# EAGLE library part DAC-PMC510XA (library FlashPCB_ICs)
PCM510xA - IC DAC 16/24/32BIT 384K 20TSSOP Technical Specifications: DAC, Audio 16 b, 24 b, 32 b 384k PCM 20-TSSOP Digital-to-Analog Converter, Audio Number of Channels: 2 Interface: PCM Input Resolution: 16-bit, 24-bit, 32-bit Supply Voltage: 1.8V~3.3V (Digital) / 5.5V (Analog) Component Search: PCM5100 / PCM5101 / PCM5102 <https://www.flashpcb.com/components> Datasheet: PCM510xA 2.1 VRMS, 112/106/100 dB Audio Stereo DAC with PLL and 32-bit, 384 kHz PCM Interface datasheet (Rev. C) <https://www.ti.com/lit/ds/symlink/pcm5101a-q1.pdf?HQS=dis-dk-null-digikeymode-dsf-pf-null-wwe&ts=1683750036524&ref_url=https%253A%252F%252Fwww.ti.com%252Fgeneral%252Fdocs%252Fsuppproductinfo.tsp%253FdistId%253D10%2526gotoUrl%253Dhttps%253A%252F%252Fwww.ti.com%252Flit%252Fgpn%252Fpcm5101a-q1>
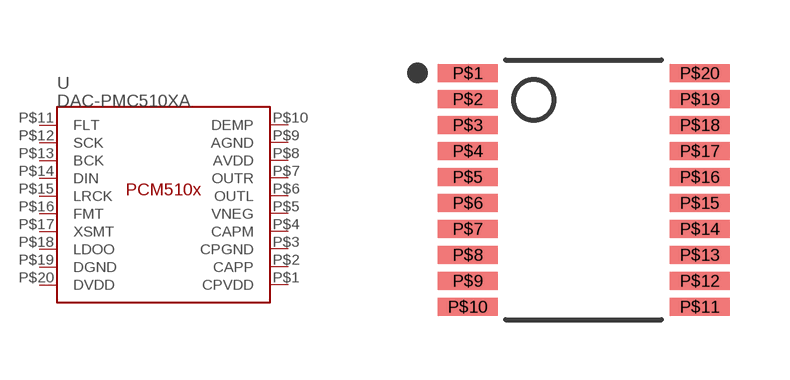
[diagram p41: symbol with the pads of 20-TSSOP(6.5X4.4); footprint 20-TSSOP(6.5X4.4)]

Designator prefix U

## DAC-PMC510XAPW  [20-TSSOP(6.5X4.4)]
P$1  CPVDD
P$2  CAPP
P$3  CPGND
P$4  CAPM
P$5  VNEG
P$6  OUTL
P$7  OUTR
P$8  AVDD
P$9  AGND
P$10  DEMP
P$11  FLT
P$12  SCK
P$13  BCK
P$14  DIN
P$15  LRCK
P$16  FMT
P$17  XSMT
P$18  LDOO
P$19  DGND
P$20  DVDD

## Footprint 20-TSSOP(6.5X4.4) (pad centres in mm)
smd 1.5 x 0.45: P$1 -2.9,2.925; P$2 -2.9,2.275; P$3 -2.9,1.625; P$4 -2.9,0.975; P$5 -2.9,0.325; P$6 -2.9,-0.325; P$7 -2.9,-0.975; P$8 -2.9,-1.625; P$9 -2.9,-2.275; P$10 -2.9,-2.925; P$11 2.9,-2.925; P$12 2.9,-2.275; P$13 2.9,-1.625; P$14 2.9,-0.975; P$15 2.9,-0.325; P$16 2.9,0.325; P$17 2.9,0.975; P$18 2.9,1.625; P$19 2.9,2.275; P$20 2.9,2.925